# Altium footprint library ON SEMI SOT-89 H.PCBLIB: 1 footprints
Each footprint in its own frame and in the unit in brackets; x right, y up, seen from the top. Pads: shape width x height; smd on the part's side, far side on the other; paste and mask are expansions set on the pad; w line width, h text height; cw(c..) or ccw(c..) is an arc to the next point about the centre after c.
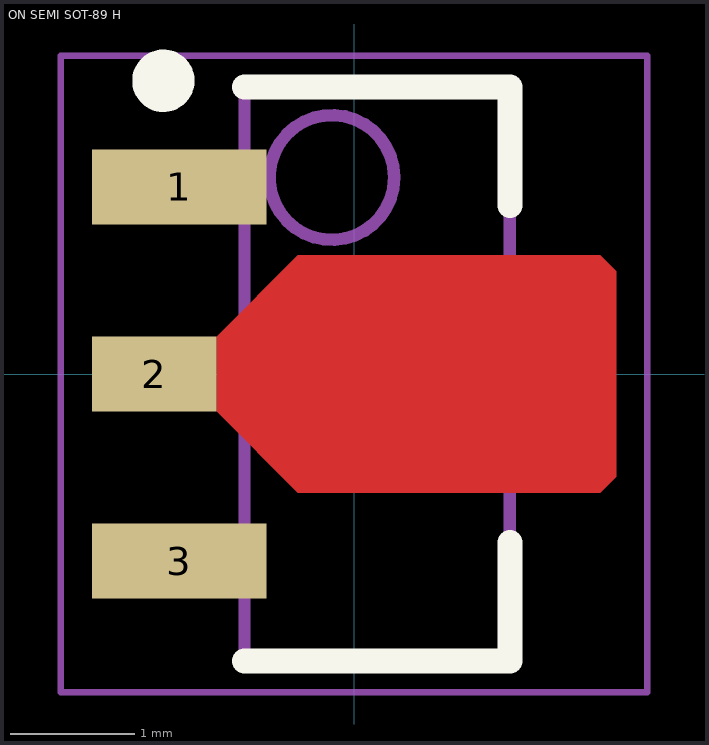
[diagram p0: the footprint, top view; thin cyan lines are the x and y axes]

## ON SEMI SOT-89 H [mm] "SOT89, 3-Leads, Body 4.50x2.50mm, Pitch 1.50mm, Lead Span 3.3mm, IPC Medium Density"
height 1.6
pads (3):
  rect 1.4x0.6 smd: 1(-1.4,1.5) 3(-1.4,-1.5)
  rect 1x0.6 smd: 2(-1.6,0)
Top Layer:
  region: -1.1,0.3 -0.45,0.95 1.975,0.95 2.1,0.825 2.1,-0.825 1.975,-0.95 -0.45,-0.95 -1.1,-0.3
Top Overlay:
  circle w0.25: c-1.528,2.35 r0.125
  lines w0.2: -0.878,-2.3 1.25,-2.3 1.25,-1.35 ; -0.878,2.3 1.25,2.3 1.25,1.35
Mechanical 13:
  circle w0.1: c-0.178,1.575 r0.5
  lines w0.1: -0.878,-2.3 1.25,-2.3 1.25,2.3 -0.878,2.3 -0.878,-2.3
Mechanical 15:
  lines w0.05: -2.35,-2.55 2.35,-2.55 2.35,2.55 -2.35,2.55 -2.35,-2.55
  lines w0.1: -0.078,0 0.923,0 ; 0.422,-0.5 0.422,0.5
3D body "SOT-89.STEP": height 1.5, standoff 0, extent -2.05,-2.25 2.1,2.25